# Altium schematic symbol library 301.Schlib: 1 symbol
Pins are listed as number, name and electrical type; pins without a type are passive.

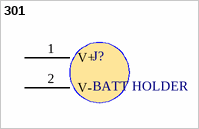
[diagram p0: symbol 301]

## 301
designator J?, comment BATT HOLDER
Battery holder
pins: 1 V+, 2 V-